# Altium footprint library UKU20204.PcbLib: 41 footprints (part 1 of 3)
Each footprint in its own frame and in the unit in brackets; x right, y up, seen from the top. Pads: shape width x height; smd on the part's side, far side on the other; paste and mask are expansions set on the pad; w line width, h text height; cw(c..) or ccw(c..) is an arc to the next point about the centre after c.
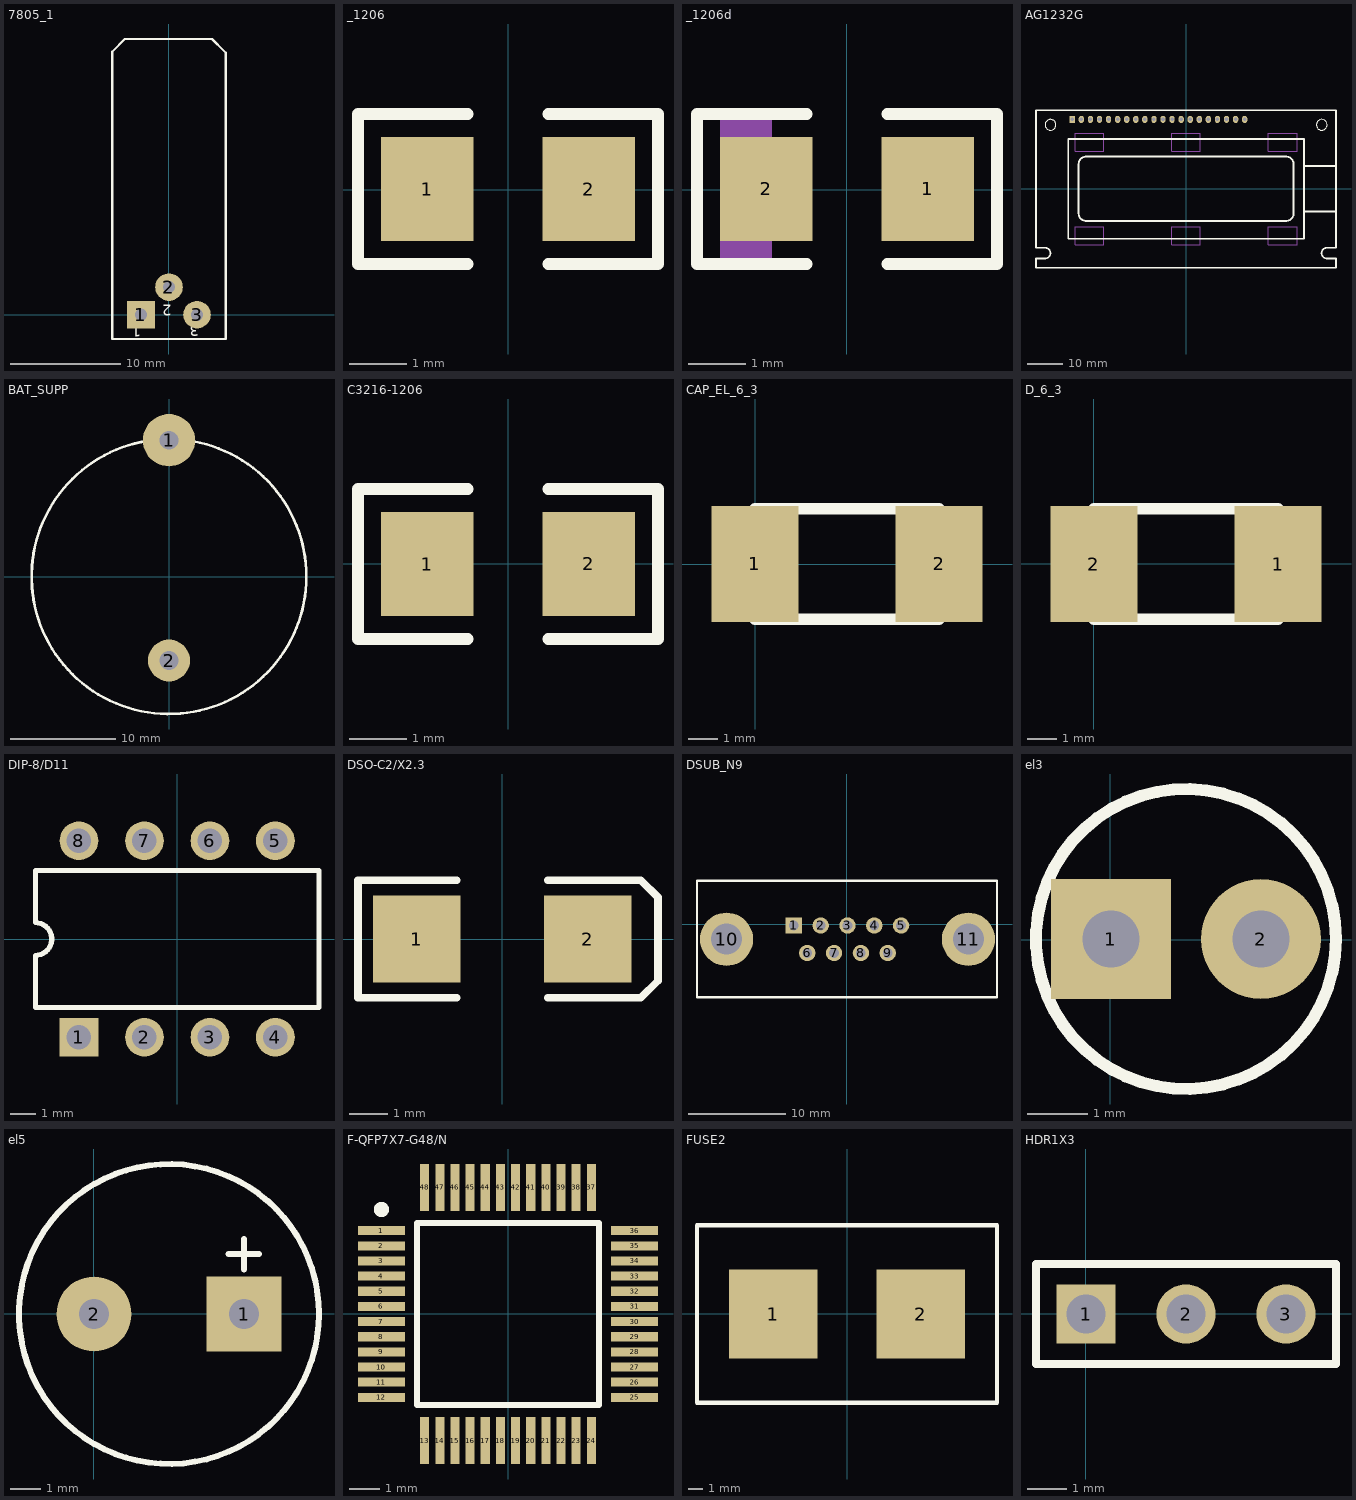
[diagram p0: the footprints below, top view; thin cyan lines are the x and y axes]

## 7805_1 [mm]
pads (3):
  rect 2.5x2.5 hole 1.1: 1(-2.531,0.005)
  round 2.5 hole 1.1: 2(0.009,2.505) 3(2.549,0.005)
Top Overlay:
  lines w0.2: 5.159,2.505 5.159,23.755 5.009,23.905 3.909,25.005 -3.991,25.005 -5.141,23.855 -5.141,2.705 -5.141,-2.195 5.159,-2.195 5.159,2.705
  text "3" at 2.759,-0.945 h1
  text "2" at 0.259,0.905 h1
  text "1" at -2.491,-0.995 h1

## _1206 [mm]
pads (2):
  rect 1.6x1.8 smd: 1(-1.408,0.01) 2(1.392,0.01)
Top Overlay:
  lines w0.2: -0.708,-1.29 -2.608,-1.29 -2.608,1.31 -0.708,1.31 ; 0.692,-1.29 2.592,-1.29 2.592,1.31 0.692,1.31

## _1206d [mm]
pads (2):
  rect 1.6x1.8 smd: 1(1.406,0.016) 2(-1.394,0.016)
Top Overlay:
  lines w0.2: -0.694,-1.284 -2.594,-1.284 -2.594,1.316 -0.694,1.316 ; 0.706,-1.284 2.606,-1.284 2.606,1.316 0.706,1.316
Mechanical 2:
  rectangle: -2.193,-1.284 -1.293,1.316

## AG1232G [mm]
pads (20):
  rect 1.5x2 hole 1: 1(-31.872,19.422)
  oval 1.5x2 hole 1: 2(-29.332,19.422) 3(-26.792,19.422) 4(-24.252,19.422) 5(-21.712,19.422) 6(-19.172,19.422) 7(-16.632,19.422) 8(-14.092,19.422) 9(-11.552,19.422) 10(-9.012,19.422) 11(-6.472,19.422) 12(-3.932,19.422) 13(-1.392,19.422) 14(1.148,19.422) 15(3.688,19.422) 16(6.228,19.422) 17(8.768,19.422) 18(11.308,19.422) 19(13.848,19.422) 20(16.388,19.422)
Top Overlay:
  circle w0.254: c-37.968,17.898 r1.5
  circle w0.254: c37.978,17.898 r1.5
  circle w0.5: c-27.935,-9.026 r0
  lines w0.48: -39.492,-19.543 ccw(c-39.492,-18.043) -39.492,-16.543 ; 39.428,-19.543 cw(c39.428,-18.043) 39.428,-16.543
  lines w0.5: -42.008,-19.543 -42.032,-19.567 ; -39.516,-19.567 -42.032,-19.567 ; -39.492,-16.543 -42.008,-16.543 -42.032,-16.519 -42.032,21.962 41.915,21.962 41.968,21.909 ; 33.025,-6.359 41.968,-6.359 ; 33.025,6.341 41.968,6.341 ; 39.428,-16.543 41.944,-16.543 ; 39.452,-19.567 41.968,-19.567 41.968,-22.107 -42.032,-22.107 -42.032,-19.567 ; 41.968,-16.519 41.968,21.962 ; -33.015,-13.979 0.005,-13.979 33.025,-13.979 33.025,-0.009 33.025,13.961 0.005,13.961 -33.015,13.961 -33.015,-0.009 -33.015,-13.979 ; -30.094,-6.994 ccw(c-27.998,-6.93) -27.935,-9.026 0.005,-9.026 27.945,-9.026 ccw(c28.009,-6.93) 30.104,-6.994 30.104,-0.009 30.104,6.976 ccw(c28.009,6.913) 27.945,9.008 0.005,9.008 -27.935,9.008 ccw(c-27.998,6.913) -30.094,6.976 -30.094,-0.009 -30.094,-6.994
Mechanical 1:
  lines w0.3: -3.993,10.537 -3.993,15.537 ; -3.993,10.537 4.007,10.537 ; -3.993,10.537 -3.993,15.537 ; -3.993,10.537 4.007,10.537 ; -3.993,15.537 4.007,15.537 ; -3.993,15.537 4.007,15.537 ; 4.007,10.537 4.007,15.537 ; 4.007,10.537 4.007,15.537 ; -31.044,-15.625 -31.044,-10.625 -23.044,-10.625 -23.044,-15.625 -31.044,-15.625 ; -31.044,10.537 -31.044,15.537 -23.044,15.537 -23.044,10.537 -31.044,10.537 ; -3.993,-15.625 -3.993,-10.625 4.007,-10.625 4.007,-15.625 -3.993,-15.625 ; 23.058,-15.625 23.058,-10.625 31.058,-10.625 31.058,-15.625 23.058,-15.625 ; 23.058,10.537 23.058,15.537 31.058,15.537 31.058,10.537 23.058,10.537

## BAT_SUPP [mm]
pads (2):
  round 5 hole 1.8: 1(-0.002,12.993)
  round 4 hole 1.8: 2(-0.002,-8.007)
Top Overlay:
  circle w0.254: c-0.002,-0.007 r13.1

## C3216-1206 [mm]
pads (2):
  rect 1.6x1.8 smd: 1(-1.407,-0.002) 2(1.393,-0.002)
Top Overlay:
  lines w0.2: -0.707,-1.302 -2.607,-1.302 -2.607,1.298 -0.707,1.298 ; 0.693,-1.302 2.593,-1.302 2.593,1.298 0.693,1.298

## CAP_EL_6_3 [mm]
pads (2):
  rect 3x4 smd: 1(-0.007,0.006) 2(6.343,0.006)
Top Overlay:
  lines w0.4: 1.262,-1.899 1.262,1.911 ; -0.007,-1.899 6.343,-1.899 6.343,1.911 -0.007,1.911 -0.007,0.006 -0.007,-1.899

## D_6_3 [mm]
pads (2):
  rect 3x4 smd: 1(6.353,-0.006) 2(0.003,-0.006)
Top Overlay:
  lines w0.4: 1.273,-1.911 1.273,1.899 ; 0.003,-1.911 0.003,-0.006 0.003,1.899 6.353,1.899 6.353,-1.911 0.003,-1.911

## DIP-8/D11 [mm]
pads (8):
  rect 1.5x1.5 hole 0.95: 1(-3.811,-3.805)
  round 1.5 hole 0.95: 2(-1.271,-3.805) 3(1.269,-3.805) 4(3.809,-3.805) 5(3.809,3.815) 6(1.269,3.815) 7(-1.271,3.815) 8(-3.811,3.815)
Top Overlay:
  lines w0.2: -5.501,-2.645 5.499,-2.645 5.499,2.655 -5.501,2.655 -5.501,0.64 cw(c-5.501,0.005) -5.501,-0.63 -5.501,-2.645

## DSO-C2/X2.3 [mm]
pads (2):
  rect 2.3x2.3 smd: 1(-2.25,0.005) 2(2.25,0.005)
Top Overlay:
  lines w0.2: -1.2,-1.545 -3.8,-1.545 -3.8,1.555 -1.2,1.555 ; 1.2,-1.545 3.64,-1.545 4.1,-1.095 4.1,1.105 3.65,1.555 ; 1.2,1.555 3.64,1.555

## DSUB_N9 [mm]
pads (11):
  rect 1.69x1.69 hole 1: 1(-5.491,-0.114)
  round 1.69 hole 1: 2(-2.721,-0.114) 3(0.049,-0.114) 4(2.819,-0.114) 5(5.589,-0.114) 6(-4.106,-2.954) 7(-1.336,-2.954) 8(1.434,-2.954) 9(4.204,-2.954)
  round 5.5 hole 3.2: 10(-12.446,-1.534) 11(12.544,-1.534)
Top Overlay:
  lines w0.254: -15.5,-7.51 15.4,-7.51 15.5,-7.51 15.5,4.49 0,4.49 -15.5,4.49 -15.5,-7.51

## el3 [mm]
pads (2):
  rect 2x2 hole 0.95: 1(0.011,0.01)
  round 2 hole 0.95: 2(2.511,0.01)
Top Overlay:
  circle w0.2: c1.261,0.01 r2.5
  lines w0.3: -0.389,0.01 0.411,0.01 ; 0.011,-0.39 0.011,0.41

## el5 [mm]
pads (2):
  rect 2.5x2.5 hole 1: 1(5.007,-0.005)
  round 2.5 hole 1: 2(0.007,-0.005)
Top Overlay:
  circle w0.2: c2.507,-0.005 r5
  lines w0.2: 4.491,1.995 5.507,1.995 ; 5.007,1.479 5.007,2.495

## F-QFP7X7-G48/N [mm]
pads (48):
  rect 1.55x0.3 smd: 1(-4.189,2.737) 2(-4.189,2.237) 3(-4.189,1.737) 4(-4.189,1.237) 5(-4.189,0.737) 6(-4.189,0.237) 7(-4.19,-0.263) 8(-4.189,-0.763) 9(-4.189,-1.263) 10(-4.189,-1.763) 11(-4.189,-2.263) 12(-4.189,-2.763) 25(4.161,-2.763) 26(4.161,-2.263) 27(4.161,-1.763) 28(4.16,-1.263) 29(4.161,-0.763) 30(4.161,-0.263) 31(4.16,0.237) 32(4.16,0.737) 33(4.161,1.237) 34(4.16,1.737) 35(4.161,2.237) 36(4.161,2.737)
  rect 0.3x1.55 smd: 13(-2.764,-4.188) 14(-2.264,-4.188) 15(-1.764,-4.188) 16(-1.264,-4.188) 17(-0.765,-4.188) 18(-0.264,-4.188) 19(0.235,-4.188) 20(0.736,-4.188) 21(1.236,-4.188) 22(1.735,-4.188) 23(2.235,-4.188) 24(2.736,-4.188) 37(2.735,4.162) 38(2.236,4.162) 39(1.735,4.162) 40(1.236,4.162) 41(0.735,4.162) 42(0.236,4.162) 43(-0.265,4.162) 44(-0.764,4.162) 45(-1.264,4.162) 46(-1.764,4.162) 47(-2.264,4.162) 48(-2.764,4.162)
Top Overlay:
  circle w0.25: c-4.189,3.437 r0.125
  lines w0.2: -3.014,-3.013 -3.014,2.987 2.986,2.987 2.986,-3.013 -3.014,-3.013

## FUSE2 [mm]
pads (2):
  rect 6x6 smd: 1(-5.004,-0.002) 2(4.996,-0.002)
Top Overlay:
  lines w0.3: -10.164,-6.002 10.156,-6.002 10.156,5.998 -10.164,5.998 -10.164,-6.002

## HDR1X3 [mm]
pads (3):
  rect 1.5x1.5 hole 1: 1(0.009,0)
  round 1.5 hole 1: 2(2.549,0) 3(5.089,0)
Top Overlay:
  lines w0.2: -1.261,-1.27 6.359,-1.27 6.359,1.27 -1.261,1.27 -1.261,-1.27